# Altium integrated library Diodes - TVS.IntLib: 5379 symbols (part 112 of 122)
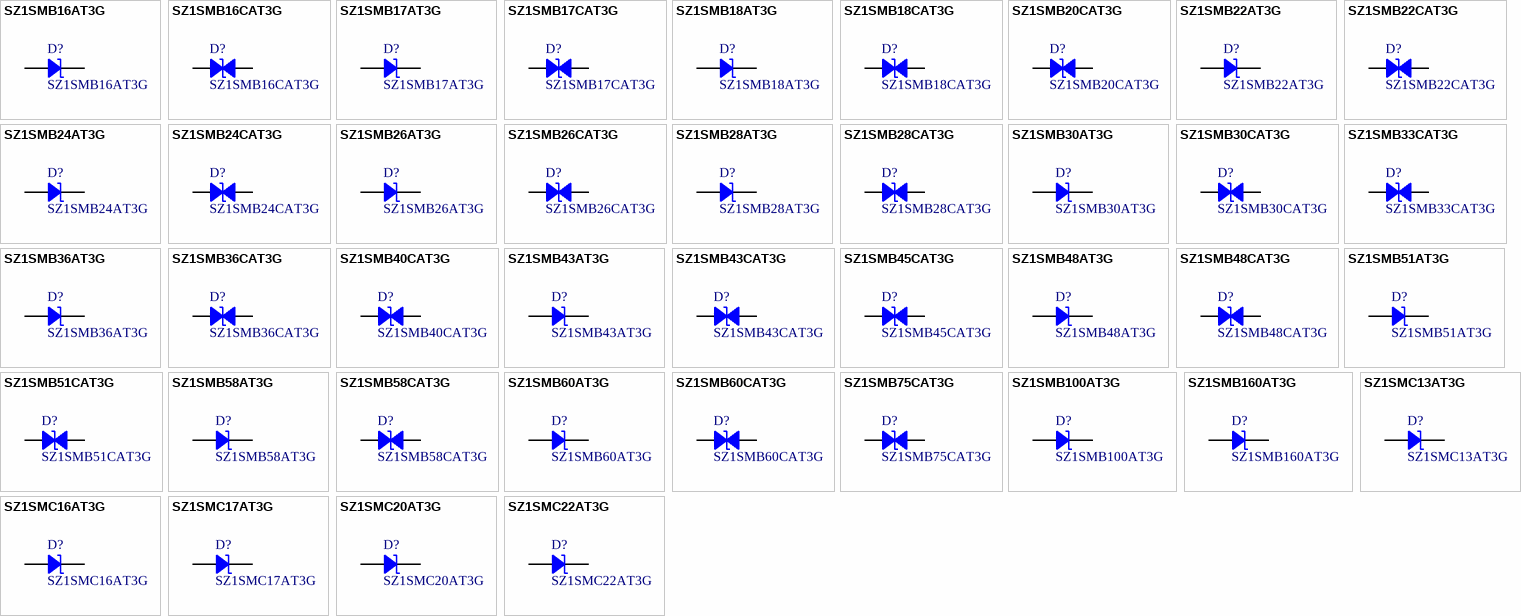
[diagram p245: symbols SZ1SMB16AT3G to SZ1SMC22AT3G]

## SZ1SMB30AT3G
designator D?
TVS DIODE 30V 48.4V SMB; Manufacturer: Littelfuse Inc.; Capacitance @ Frequency: 555pF @ 1MHz; Current - Peak Pulse (10/1000µs): 12.4A; Power Line Protection: No; Power - Peak Pulse: 600W; Type: Zener; Unidirectional Channels: 1; Voltage - Breakdown (Min): 33.3V; Part Number: SZ1SMB30AT3G; Applications: Automotive; ComponentLink1Description: Datasheet; ComponentLink1URL: https://www.littelfuse.com/~/media/electronics/datasheets/tvs_diodes/littelfuse_tvs_diode_sz1smb_datasheet.pdf.pdf; ComponentLink2Description: DigiKey Link; ComponentLink2URL: http://digikey.com/product-detail/en/littelfuse-inc/SZ1SMB30AT3G/F11559CT-ND/9326887; LastUpdated: 9/2/2020 1:19:43 AM; Lifecycle Status: Active; Minimum Order: 1; Mounting Type: Surface Mount; Operating Temperature: -65°C ~ 150°C (TJ); Package / Case: DO-214AA, SMB; Packaging: TapeAndReel; PartId: 10530; Part Status: Active; Price: 0.24; Series: Automotive, AEC-Q101; Supplier 1: DigiKey; Supplier Part Number 1: F11559CT-ND; Supplier Device Package: SMB; Voltage - Clamping (Max) @ Ipp: 48.4V; Voltage - Reverse Standoff (Typ): 30V
footprint DO214AA SMB
pins: 1, 2

## SZ1SMB30CAT3G
designator D?
TVS DIODE 30VWM 48.4VC SMB; Manufacturer: Littelfuse Inc.; Bidirectional Channels: 1; Capacitance @ Frequency: 290pF @ 1MHz; Current - Peak Pulse (10/1000µs): 12.4A; Power Line Protection: No; Power - Peak Pulse: 600W; Type: Zener; Voltage - Breakdown (Min): 33.3V; Voltage - Clamping (Max) @ Ipp: 48.4V; Voltage - Reverse Standoff (Typ): 30V; Part Number: SZ1SMB30CAT3G; Applications: Automotive; ComponentLink1Description: Datasheet; ComponentLink1URL: https://www.littelfuse.com/~/media/electronics/datasheets/tvs_diodes/littelfuse_tvs_diode_sz1smb_datasheet.pdf.pdf; ComponentLink2Description: DigiKey Link; ComponentLink2URL: http://digikey.com/product-detail/en/littelfuse-inc/SZ1SMB30CAT3G/SZ1SMB30CAT3GCT-ND/8548343; LastUpdated: 9/2/2020 1:28:18 AM; Lifecycle Status: Active; Minimum Order: 1; Mounting Type: Surface Mount; Operating Temperature: -65°C ~ 150°C (TJ); Package / Case: DO-214AA, SMB; Packaging: TapeAndReel; PartId: 9157; Part Status: Active; Price: 0.34; Series: Automotive, AEC-Q101; Supplier 1: DigiKey; Supplier Part Number 1: SZ1SMB30CAT3GCT-ND; Supplier Device Package: SMB
footprint DO214AA SMB
pins: 1, 2

## SZ1SMB33CAT3G
designator D?
TVS DIODE 33V 53.3V SMB; Manufacturer: Littelfuse Inc.; Bidirectional Channels: 1; Capacitance @ Frequency: 265pF @ 1MHz; Current - Peak Pulse (10/1000µs): 11.3A; Power Line Protection: No; Power - Peak Pulse: 600W; Type: Zener; Voltage - Breakdown (Min): 36.7V; Part Number: SZ1SMB33CAT3G; Applications: Automotive; ComponentLink1Description: Datasheet; ComponentLink1URL: https://www.littelfuse.com/~/media/electronics/datasheets/tvs_diodes/littelfuse_tvs_diode_sz1smb_datasheet.pdf.pdf; ComponentLink2Description: DigiKey Link; ComponentLink2URL: http://digikey.com/product-detail/en/littelfuse-inc/SZ1SMB33CAT3G/SZ1SMB33CAT3GOSCT-ND/4331851; LastUpdated: 9/2/2020 1:28:15 AM; Lifecycle Status: Active; Minimum Order: 1; Mounting Type: Surface Mount; Operating Temperature: -65°C ~ 150°C (TJ); Package / Case: DO-214AA, SMB; Packaging: TapeAndReel; PartId: 8889; Part Status: Active; Price: 0.37; Series: Automotive, AEC-Q101; Supplier 1: DigiKey; Supplier Part Number 1: SZ1SMB33CAT3GOSCT-ND; Supplier Device Package: SMB; Voltage - Clamping (Max) @ Ipp: 53.3V; Voltage - Reverse Standoff (Typ): 33V
footprint DO214AA SMB
pins: 1, 2

## SZ1SMB36AT3G
designator D?
TVS DIODE 36V 58.1V SMB; Manufacturer: Littelfuse Inc.; Capacitance @ Frequency: 470pF @ 1MHz; Current - Peak Pulse (10/1000µs): 10.3A; Power Line Protection: No; Power - Peak Pulse: 600W; Type: Zener; Unidirectional Channels: 1; Voltage - Breakdown (Min): 40V; Part Number: SZ1SMB36AT3G; Applications: Automotive; ComponentLink1Description: Datasheet; ComponentLink1URL: https://www.littelfuse.com/~/media/electronics/datasheets/tvs_diodes/littelfuse_tvs_diode_sz1smb_datasheet.pdf.pdf; ComponentLink2Description: DigiKey Link; ComponentLink2URL: http://digikey.com/product-detail/en/littelfuse-inc/SZ1SMB36AT3G/F11561CT-ND/9326889; LastUpdated: 9/2/2020 1:19:47 AM; Lifecycle Status: Active; Minimum Order: 1; Mounting Type: Surface Mount; Operating Temperature: -65°C ~ 150°C (TJ); Package / Case: DO-214AA, SMB; Packaging: TapeAndReel; PartId: 10906; Part Status: Active; Price: 0.24; Series: Automotive, AEC-Q101; Supplier 1: DigiKey; Supplier Part Number 1: F11561CT-ND; Supplier Device Package: SMB; Voltage - Clamping (Max) @ Ipp: 58.1V; Voltage - Reverse Standoff (Typ): 36V
footprint DO214AA SMB
pins: 1, 2

## SZ1SMB36CAT3G
designator D?
TVS DIODE 36V 58.1V SMB; Manufacturer: Littelfuse Inc.; Bidirectional Channels: 1; Capacitance @ Frequency: 245pF @ 1MHz; Current - Peak Pulse (10/1000µs): 10.3A; Power Line Protection: No; Power - Peak Pulse: 600W; Type: Zener; Voltage - Breakdown (Min): 40V; Part Number: SZ1SMB36CAT3G; Applications: Automotive; ComponentLink1Description: Datasheet; ComponentLink1URL: https://www.littelfuse.com/~/media/electronics/datasheets/tvs_diodes/littelfuse_tvs_diode_sz1smb_datasheet.pdf.pdf; ComponentLink2Description: DigiKey Link; ComponentLink2URL: http://digikey.com/product-detail/en/littelfuse-inc/SZ1SMB36CAT3G/SZ1SMB36CAT3GOSCT-ND/6007829; LastUpdated: 9/2/2020 1:28:15 AM; Lifecycle Status: Active; Minimum Order: 1; Mounting Type: Surface Mount; Operating Temperature: -65°C ~ 150°C (TJ); Package / Case: DO-214AA, SMB; Packaging: TapeAndReel; PartId: 8892; Part Status: Active; Price: 0.34; Series: Automotive, AEC-Q101; Supplier 1: DigiKey; Supplier Part Number 1: SZ1SMB36CAT3GOSCT-ND; Supplier Device Package: SMB; Voltage - Clamping (Max) @ Ipp: 58.1V; Voltage - Reverse Standoff (Typ): 36V
footprint DO214AA SMB
pins: 1, 2

## SZ1SMB40CAT3G
designator D?
TVS DIODE 40V 64.5V SMB; Manufacturer: Littelfuse Inc.; Bidirectional Channels: 1; Capacitance @ Frequency: 220pF @ 1MHz; Current - Peak Pulse (10/1000µs): 9.3A; Power Line Protection: No; Power - Peak Pulse: 600W; Type: Zener; Voltage - Breakdown (Min): 44.4V; Part Number: SZ1SMB40CAT3G; Applications: Automotive; ComponentLink1Description: Datasheet; ComponentLink1URL: https://www.littelfuse.com/~/media/electronics/datasheets/tvs_diodes/littelfuse_tvs_diode_sz1smb_datasheet.pdf.pdf; ComponentLink2Description: DigiKey Link; ComponentLink2URL: http://digikey.com/product-detail/en/littelfuse-inc/SZ1SMB40CAT3G/F11562CT-ND/9326890; LastUpdated: 9/2/2020 1:28:18 AM; Lifecycle Status: Active; Minimum Order: 1; Mounting Type: Surface Mount; Operating Temperature: -65°C ~ 150°C (TJ); Package / Case: DO-214AA, SMB; Packaging: TapeAndReel; PartId: 9159; Part Status: Active; Price: 0.29; Series: Automotive, AEC-Q101; Supplier 1: DigiKey; Supplier Part Number 1: F11562CT-ND; Supplier Device Package: SMB; Voltage - Clamping (Max) @ Ipp: 64.5V; Voltage - Reverse Standoff (Typ): 40V
footprint DO214AA SMB
pins: 1, 2

## SZ1SMB43AT3G
designator D?
TVS DIODE 43V 69.4V SMB; Manufacturer: Littelfuse Inc.; Capacitance @ Frequency: 400pF @ 1MHz; Current - Peak Pulse (10/1000µs): 8.6A; Power Line Protection: No; Power - Peak Pulse: 600W; Type: Zener; Unidirectional Channels: 1; Voltage - Breakdown (Min): 47.8V; Part Number: SZ1SMB43AT3G; Applications: Automotive; ComponentLink1Description: Datasheet; ComponentLink1URL: https://www.littelfuse.com/~/media/electronics/datasheets/tvs_diodes/littelfuse_tvs_diode_sz1smb_datasheet.pdf.pdf; ComponentLink2Description: DigiKey Link; ComponentLink2URL: http://digikey.com/product-detail/en/littelfuse-inc/SZ1SMB43AT3G/F11563CT-ND/9326891; LastUpdated: 9/2/2020 1:19:50 AM; Lifecycle Status: Active; Minimum Order: 1; Mounting Type: Surface Mount; Operating Temperature: -65°C ~ 150°C (TJ); Package / Case: DO-214AA, SMB; Packaging: TapeAndReel; PartId: 11298; Part Status: Active; Price: 0.30; Series: Automotive, AEC-Q101; Supplier 1: DigiKey; Supplier Part Number 1: F11563CT-ND; Supplier Device Package: SMB; Voltage - Clamping (Max) @ Ipp: 69.4V; Voltage - Reverse Standoff (Typ): 43V
footprint DO214AA SMB
pins: 1, 2

## SZ1SMB43CAT3G
designator D?
TVS DIODE 43V 69.4V SMB; Manufacturer: Littelfuse Inc.; Bidirectional Channels: 1; Capacitance @ Frequency: 210pF @ 1MHz; Current - Peak Pulse (10/1000µs): 8.6A; Power Line Protection: No; Power - Peak Pulse: 600W; Type: Zener; Voltage - Breakdown (Min): 47.8V; Part Number: SZ1SMB43CAT3G; Applications: Automotive; ComponentLink1Description: Datasheet; ComponentLink1URL: https://www.littelfuse.com/~/media/electronics/datasheets/tvs_diodes/littelfuse_tvs_diode_sz1smb_datasheet.pdf.pdf; ComponentLink2Description: DigiKey Link; ComponentLink2URL: http://digikey.com/product-detail/en/littelfuse-inc/SZ1SMB43CAT3G/F11564CT-ND/9326892; LastUpdated: 9/2/2020 1:28:22 AM; Lifecycle Status: Active; Minimum Order: 1; Mounting Type: Surface Mount; Operating Temperature: -65°C ~ 150°C (TJ); Package / Case: DO-214AA, SMB; Packaging: TapeAndReel; PartId: 9650; Part Status: Active; Price: 0.29; Series: Automotive, AEC-Q101; Supplier 1: DigiKey; Supplier Part Number 1: F11564CT-ND; Supplier Device Package: SMB; Voltage - Clamping (Max) @ Ipp: 69.4V; Voltage - Reverse Standoff (Typ): 43V
footprint DO214AA SMB
pins: 1, 2

## SZ1SMB45CAT3G
designator D?
TVS DIODE 45V 72.2V SMB; Manufacturer: Littelfuse Inc.; Bidirectional Channels: 1; Capacitance @ Frequency: 200pF @ 1MHz; Current - Peak Pulse (10/1000µs): 8.3A; Power Line Protection: No; Power - Peak Pulse: 600W; Type: Zener; Voltage - Breakdown (Min): 50V; Part Number: SZ1SMB45CAT3G; Applications: Automotive; ComponentLink1Description: Datasheet; ComponentLink1URL: https://www.littelfuse.com/~/media/electronics/datasheets/tvs_diodes/littelfuse_tvs_diode_sz1smb_datasheet.pdf.pdf; ComponentLink2Description: DigiKey Link; ComponentLink2URL: http://digikey.com/product-detail/en/littelfuse-inc/SZ1SMB45CAT3G/F11565CT-ND/9326893; LastUpdated: 9/2/2020 1:28:22 AM; Lifecycle Status: Active; Minimum Order: 1; Mounting Type: Surface Mount; Operating Temperature: -65°C ~ 150°C (TJ); Package / Case: DO-214AA, SMB; Packaging: TapeAndReel; PartId: 9648; Part Status: Active; Price: 0.29; Series: Automotive, AEC-Q101; Supplier 1: DigiKey; Supplier Part Number 1: F11565CT-ND; Supplier Device Package: SMB; Voltage - Clamping (Max) @ Ipp: 72.2V; Voltage - Reverse Standoff (Typ): 45V
footprint DO214AA SMB
pins: 1, 2

## SZ1SMB48AT3G
designator D?
TVS DIODE 48V 77.4V SMB; Manufacturer: Littelfuse Inc.; Capacitance @ Frequency: 365pF @ 1MHz; Current - Peak Pulse (10/1000µs): 7.7A; Power Line Protection: No; Power - Peak Pulse: 600W; Type: Zener; Unidirectional Channels: 1; Voltage - Breakdown (Min): 53.3V; Part Number: SZ1SMB48AT3G; Applications: Automotive; ComponentLink1Description: Datasheet; ComponentLink1URL: https://www.littelfuse.com/~/media/electronics/datasheets/tvs_diodes/littelfuse_tvs_diode_sz1smb_datasheet.pdf.pdf; ComponentLink2Description: DigiKey Link; ComponentLink2URL: http://digikey.com/product-detail/en/littelfuse-inc/SZ1SMB48AT3G/F11566CT-ND/9326894; LastUpdated: 9/2/2020 1:19:43 AM; Lifecycle Status: Active; Minimum Order: 1; Mounting Type: Surface Mount; Operating Temperature: -65°C ~ 150°C (TJ); Package / Case: DO-214AA, SMB; Packaging: TapeAndReel; PartId: 10532; Part Status: Active; Price: 0.24; Series: Automotive, AEC-Q101; Supplier 1: DigiKey; Supplier Part Number 1: F11566CT-ND; Supplier Device Package: SMB; Voltage - Clamping (Max) @ Ipp: 77.4V; Voltage - Reverse Standoff (Typ): 48V
footprint DO214AA SMB
pins: 1, 2

## SZ1SMB48CAT3G
designator D?
TVS DIODE 48V 77.4V SMB; Manufacturer: Littelfuse Inc.; Bidirectional Channels: 1; Capacitance @ Frequency: 190pF @ 1MHz; Current - Peak Pulse (10/1000µs): 7.7A; Power Line Protection: No; Power - Peak Pulse: 600W; Type: Zener; Voltage - Breakdown (Min): 53.3V; Part Number: SZ1SMB48CAT3G; Applications: Automotive; ComponentLink1Description: Datasheet; ComponentLink1URL: https://www.littelfuse.com/~/media/electronics/datasheets/tvs_diodes/littelfuse_tvs_diode_sz1smb_datasheet.pdf.pdf; ComponentLink2Description: DigiKey Link; ComponentLink2URL: http://digikey.com/product-detail/en/littelfuse-inc/SZ1SMB48CAT3G/F11567CT-ND/9326895; LastUpdated: 9/2/2020 1:28:16 AM; Lifecycle Status: Active; Minimum Order: 1; Mounting Type: Surface Mount; Operating Temperature: -65°C ~ 150°C (TJ); Package / Case: DO-214AA, SMB; Packaging: TapeAndReel; PartId: 8898; Part Status: Active; Price: 0.29; Series: Automotive, AEC-Q101; Supplier 1: DigiKey; Supplier Part Number 1: F11567CT-ND; Supplier Device Package: SMB; Voltage - Clamping (Max) @ Ipp: 77.4V; Voltage - Reverse Standoff (Typ): 48V
footprint DO214AA SMB
pins: 1, 2

## SZ1SMB51AT3G
designator D?
TVS DIODE 51V 82.4V SMB; Manufacturer: Littelfuse Inc.; Capacitance @ Frequency: 345pF @ 1MHz; Current - Peak Pulse (10/1000µs): 7.3A; Power Line Protection: No; Power - Peak Pulse: 600W; Type: Zener; Unidirectional Channels: 1; Voltage - Breakdown (Min): 56.7V; Part Number: SZ1SMB51AT3G; Applications: Automotive; ComponentLink1Description: Datasheet; ComponentLink1URL: https://www.littelfuse.com/~/media/electronics/datasheets/tvs_diodes/littelfuse_tvs_diode_sz1smb_datasheet.pdf.pdf; ComponentLink2Description: DigiKey Link; ComponentLink2URL: http://digikey.com/product-detail/en/littelfuse-inc/SZ1SMB51AT3G/F11569CT-ND/9326897; LastUpdated: 9/2/2020 1:19:51 AM; Lifecycle Status: Active; Minimum Order: 1; Mounting Type: Surface Mount; Operating Temperature: -65°C ~ 150°C (TJ); Package / Case: DO-214AA, SMB; Packaging: TapeAndReel; PartId: 11347; Part Status: Active; Price: 0.30; Series: Automotive, AEC-Q101; Supplier 1: DigiKey; Supplier Part Number 1: F11569CT-ND; Supplier Device Package: SMB; Voltage - Clamping (Max) @ Ipp: 82.4V; Voltage - Reverse Standoff (Typ): 51V
footprint DO214AA SMB
pins: 1, 2

## SZ1SMB51CAT3G
designator D?
TVS DIODE 51V 82.4V SMB; Manufacturer: Littelfuse Inc.; Bidirectional Channels: 1; Capacitance @ Frequency: 175pF @ 1MHz; Current - Peak Pulse (10/1000µs): 7.3A; Power Line Protection: No; Power - Peak Pulse: 600W; Type: Zener; Voltage - Breakdown (Min): 56.7V; Part Number: SZ1SMB51CAT3G; Applications: Automotive; ComponentLink1Description: Datasheet; ComponentLink1URL: https://www.littelfuse.com/~/media/electronics/datasheets/tvs_diodes/littelfuse_tvs_diode_sz1smb_datasheet.pdf.pdf; ComponentLink2Description: DigiKey Link; ComponentLink2URL: http://digikey.com/product-detail/en/littelfuse-inc/SZ1SMB51CAT3G/F11570CT-ND/9326898; LastUpdated: 9/2/2020 1:28:22 AM; Lifecycle Status: Active; Minimum Order: 1; Mounting Type: Surface Mount; Operating Temperature: -65°C ~ 150°C (TJ); Package / Case: DO-214AA, SMB; Packaging: TapeAndReel; PartId: 9651; Part Status: Active; Price: 0.29; Series: Automotive, AEC-Q101; Supplier 1: DigiKey; Supplier Part Number 1: F11570CT-ND; Supplier Device Package: SMB; Voltage - Clamping (Max) @ Ipp: 82.4V; Voltage - Reverse Standoff (Typ): 51V
footprint DO214AA SMB
pins: 1, 2

## SZ1SMB58AT3G
designator D?
TVS DIODE 58V 93.6V SMB; Manufacturer: Littelfuse Inc.; Capacitance @ Frequency: 310pF @ 1MHz; Current - Peak Pulse (10/1000µs): 6.4A; Power Line Protection: No; Power - Peak Pulse: 600W; Type: Zener; Unidirectional Channels: 1; Voltage - Breakdown (Min): 64.4V; Part Number: SZ1SMB58AT3G; Applications: Automotive; ComponentLink1Description: Datasheet; ComponentLink1URL: https://www.littelfuse.com/~/media/electronics/datasheets/tvs_diodes/littelfuse_tvs_diode_sz1smb_datasheet.pdf.pdf; ComponentLink2Description: DigiKey Link; ComponentLink2URL: http://digikey.com/product-detail/en/littelfuse-inc/SZ1SMB58AT3G/F11572CT-ND/9326900; LastUpdated: 9/2/2020 1:19:46 AM; Lifecycle Status: Active; Minimum Order: 1; Mounting Type: Surface Mount; Operating Temperature: -65°C ~ 150°C (TJ); Package / Case: DO-214AA, SMB; Packaging: TapeAndReel; PartId: 10833; Part Status: Active; Price: 0.30; Series: Automotive, AEC-Q101; Supplier 1: DigiKey; Supplier Part Number 1: F11572CT-ND; Supplier Device Package: SMB; Voltage - Clamping (Max) @ Ipp: 93.6V; Voltage - Reverse Standoff (Typ): 58V
footprint DO214AA SMB
pins: 1, 2

## SZ1SMB58CAT3G
designator D?
TVS DIODE 58V 93.6V SMB; Manufacturer: Littelfuse Inc.; Bidirectional Channels: 1; Capacitance @ Frequency: 155pF @ 1MHz; Current - Peak Pulse (10/1000µs): 6.4A; Power Line Protection: No; Power - Peak Pulse: 600W; Type: Zener; Voltage - Breakdown (Min): 64.4V; Part Number: SZ1SMB58CAT3G; Applications: Automotive; ComponentLink1Description: Datasheet; ComponentLink1URL: https://www.littelfuse.com/~/media/electronics/datasheets/tvs_diodes/littelfuse_tvs_diode_sz1smb_datasheet.pdf.pdf; ComponentLink2Description: DigiKey Link; ComponentLink2URL: http://digikey.com/product-detail/en/littelfuse-inc/SZ1SMB58CAT3G/F11573CT-ND/9326901; LastUpdated: 9/2/2020 1:28:22 AM; Lifecycle Status: Active; Minimum Order: 1; Mounting Type: Surface Mount; Operating Temperature: -65°C ~ 150°C (TJ); Package / Case: DO-214AA, SMB; Packaging: TapeAndReel; PartId: 9643; Part Status: Active; Price: 0.29; Series: Automotive, AEC-Q101; Supplier 1: DigiKey; Supplier Part Number 1: F11573CT-ND; Supplier Device Package: SMB; Voltage - Clamping (Max) @ Ipp: 93.6V; Voltage - Reverse Standoff (Typ): 58V
footprint DO214AA SMB
pins: 1, 2

## SZ1SMB60AT3G
designator D?
TVS DIODE 60V 96.8V SMB; Manufacturer: Littelfuse Inc.; Capacitance @ Frequency: 300pF @ 1MHz; Current - Peak Pulse (10/1000µs): 6.2A; Power Line Protection: No; Power - Peak Pulse: 600W; Type: Zener; Unidirectional Channels: 1; Voltage - Breakdown (Min): 66.7V; Part Number: SZ1SMB60AT3G; Applications: Automotive; ComponentLink1Description: Datasheet; ComponentLink1URL: https://www.littelfuse.com/~/media/electronics/datasheets/tvs_diodes/littelfuse_tvs_diode_sz1smb_datasheet.pdf.pdf; ComponentLink2Description: DigiKey Link; ComponentLink2URL: http://digikey.com/product-detail/en/littelfuse-inc/SZ1SMB60AT3G/F11575CT-ND/9326903; LastUpdated: 9/2/2020 1:19:51 AM; Lifecycle Status: Active; Minimum Order: 1; Mounting Type: Surface Mount; Operating Temperature: -65°C ~ 150°C (TJ); Package / Case: DO-214AA, SMB; Packaging: TapeAndReel; PartId: 11350; Part Status: Active; Price: 0.30; Series: Automotive, AEC-Q101; Supplier 1: DigiKey; Supplier Part Number 1: F11575CT-ND; Supplier Device Package: SMB; Voltage - Clamping (Max) @ Ipp: 96.8V; Voltage - Reverse Standoff (Typ): 60V
footprint DO214AA SMB
pins: 1, 2

## SZ1SMB60CAT3G
designator D?
TVS DIODE 60V 96.8V SMB; Manufacturer: Littelfuse Inc.; Bidirectional Channels: 1; Capacitance @ Frequency: 150pF @ 1MHz; Current - Peak Pulse (10/1000µs): 6.2A; Power Line Protection: No; Power - Peak Pulse: 600W; Type: Zener; Voltage - Breakdown (Min): 66.7V; Part Number: SZ1SMB60CAT3G; Applications: Automotive; ComponentLink1Description: Datasheet; ComponentLink1URL: https://www.littelfuse.com/~/media/electronics/datasheets/tvs_diodes/littelfuse_tvs_diode_sz1smb_datasheet.pdf.pdf; ComponentLink2Description: DigiKey Link; ComponentLink2URL: http://digikey.com/product-detail/en/littelfuse-inc/SZ1SMB60CAT3G/F11576CT-ND/9326904; LastUpdated: 9/2/2020 1:28:16 AM; Lifecycle Status: Active; Minimum Order: 1; Mounting Type: Surface Mount; Operating Temperature: -65°C ~ 150°C (TJ); Package / Case: DO-214AA, SMB; Packaging: TapeAndReel; PartId: 8895; Part Status: Active; Price: 0.29; Series: Automotive, AEC-Q101; Supplier 1: DigiKey; Supplier Part Number 1: F11576CT-ND; Supplier Device Package: SMB; Voltage - Clamping (Max) @ Ipp: 96.8V; Voltage - Reverse Standoff (Typ): 60V
footprint DO214AA SMB
pins: 1, 2

## SZ1SMB75CAT3G
designator D?
TVS DIODE 75V 121V SMB; Manufacturer: Littelfuse Inc.; Bidirectional Channels: 1; Capacitance @ Frequency: 125pF @ 1MHz; Current - Peak Pulse (10/1000µs): 4.9A; Power Line Protection: No; Power - Peak Pulse: 600W; Type: Zener; Voltage - Breakdown (Min): 83.3V; Part Number: SZ1SMB75CAT3G; Applications: Automotive; ComponentLink1Description: Datasheet; ComponentLink1URL: https://www.littelfuse.com/~/media/electronics/datasheets/tvs_diodes/littelfuse_tvs_diode_sz1smb_datasheet.pdf.pdf; ComponentLink2Description: DigiKey Link; ComponentLink2URL: http://digikey.com/product-detail/en/littelfuse-inc/SZ1SMB75CAT3G/F11580CT-ND/9326908; LastUpdated: 9/2/2020 1:28:22 AM; Lifecycle Status: Active; Minimum Order: 1; Mounting Type: Surface Mount; Operating Temperature: -65°C ~ 150°C (TJ); Package / Case: DO-214AA, SMB; Packaging: TapeAndReel; PartId: 9644; Part Status: Active; Price: 0.29; Series: Automotive, AEC-Q101; Supplier 1: DigiKey; Supplier Part Number 1: F11580CT-ND; Supplier Device Package: SMB; Voltage - Clamping (Max) @ Ipp: 121V; Voltage - Reverse Standoff (Typ): 75V
footprint DO214AA SMB
pins: 1, 2

## SZ1SMB100AT3G
designator D?
TVS DIODE 100V 162V SMB; Manufacturer: Littelfuse Inc.; Capacitance @ Frequency: 190pF @ 1MHz; Current - Peak Pulse (10/1000µs): 3.7A; Power Line Protection: No; Power - Peak Pulse: 600W; Type: Zener; Unidirectional Channels: 1; Voltage - Breakdown (Min): 111V; Part Number: SZ1SMB100AT3G; Applications: Automotive; ComponentLink1Description: Datasheet; ComponentLink1URL: https://www.littelfuse.com/~/media/electronics/datasheets/tvs_diodes/littelfuse_tvs_diode_sz1smb_datasheet.pdf.pdf; ComponentLink2Description: DigiKey Link; ComponentLink2URL: http://digikey.com/product-detail/en/littelfuse-inc/SZ1SMB100AT3G/F11534CT-ND/9326862; LastUpdated: 9/2/2020 1:19:48 AM; Lifecycle Status: Active; Minimum Order: 1; Mounting Type: Surface Mount; Operating Temperature: -65°C ~ 150°C (TJ); Package / Case: DO-214AA, SMB; Packaging: TapeAndReel; PartId: 10997; Part Status: Active; Price: 0.37; Series: Automotive, AEC-Q101; Supplier 1: DigiKey; Supplier Part Number 1: F11534CT-ND; Supplier Device Package: SMB; Voltage - Clamping (Max) @ Ipp: 162V; Voltage - Reverse Standoff (Typ): 100V
footprint DO214AA SMB
pins: 1, 2

## SZ1SMB160AT3G
designator D?
TVS DIODE 160V 259V SMB; Manufacturer: Littelfuse Inc.; Capacitance @ Frequency: 125pF @ 1MHz; Current - Peak Pulse (10/1000µs): 2.3A; Power Line Protection: No; Power - Peak Pulse: 600W; Type: Zener; Unidirectional Channels: 1; Voltage - Breakdown (Min): 178V; Part Number: SZ1SMB160AT3G; Applications: Automotive; ComponentLink1Description: Datasheet; ComponentLink1URL: https://www.littelfuse.com/~/media/electronics/datasheets/tvs_diodes/littelfuse_tvs_diode_sz1smb_datasheet.pdf.pdf; ComponentLink2Description: DigiKey Link; ComponentLink2URL: http://digikey.com/product-detail/en/littelfuse-inc/SZ1SMB160AT3G/F11545CT-ND/9326873; LastUpdated: 9/2/2020 1:19:48 AM; Lifecycle Status: Active; Minimum Order: 1; Mounting Type: Surface Mount; Operating Temperature: -65°C ~ 150°C (TJ); Package / Case: DO-214AA, SMB; Packaging: TapeAndReel; PartId: 10995; Part Status: Active; Price: 0.37; Series: Automotive, AEC-Q101; Supplier 1: DigiKey; Supplier Part Number 1: F11545CT-ND; Supplier Device Package: SMB; Voltage - Clamping (Max) @ Ipp: 259V; Voltage - Reverse Standoff (Typ): 160V
footprint DO214AA SMB
pins: 1, 2

## SZ1SMC13AT3G
designator D?
TVS DIODE 13V 21.5V SMC; Manufacturer: Littelfuse Inc.; Current - Peak Pulse (10/1000µs): 69.7A; Power Line Protection: No; Power - Peak Pulse: 1500W (1.5kW); Type: Zener; Unidirectional Channels: 1; Voltage - Breakdown (Min): 14.4V; Part Number: SZ1SMC13AT3G; Applications: Automotive; ComponentLink1Description: Datasheet; ComponentLink1URL: https://www.littelfuse.com/~/media/electronics/datasheets/tvs_diodes/littelfuse_tvs_diode_sz1smcxxa_datasheet.pdf.pdf; ComponentLink2Description: DigiKey Link; ComponentLink2URL: http://digikey.com/product-detail/en/littelfuse-inc/SZ1SMC13AT3G/F11581CT-ND/9326909; LastUpdated: 9/2/2020 1:20:06 AM; Lifecycle Status: Active; Minimum Order: 1; Mounting Type: Surface Mount; Operating Temperature: -65°C ~ 150°C (TJ); Package / Case: DO-214AB, SMC; Packaging: TapeAndReel; PartId: 7071; Part Status: Active; Price: 0.43; Series: Automotive, AEC-Q101; Supplier 1: DigiKey; Supplier Part Number 1: F11581CT-ND; Supplier Device Package: SMC; Voltage - Clamping (Max) @ Ipp: 21.5V; Voltage - Reverse Standoff (Typ): 13V
footprint DO214AB SMC
pins: 1, 2

## SZ1SMC16AT3G
designator D?
TVS DIODE 16V 26V SMC; Manufacturer: Littelfuse Inc.; Current - Peak Pulse (10/1000µs): 57.7A; Power Line Protection: No; Power - Peak Pulse: 1500W (1.5kW); Type: Zener; Unidirectional Channels: 1; Voltage - Breakdown (Min): 17.8V; Part Number: SZ1SMC16AT3G; Applications: Automotive; ComponentLink1Description: Datasheet; ComponentLink1URL: https://www.littelfuse.com/~/media/electronics/datasheets/tvs_diodes/littelfuse_tvs_diode_sz1smcxxa_datasheet.pdf.pdf; ComponentLink2Description: DigiKey Link; ComponentLink2URL: http://digikey.com/product-detail/en/littelfuse-inc/SZ1SMC16AT3G/F11582CT-ND/9326910; LastUpdated: 9/2/2020 1:20:07 AM; Lifecycle Status: Active; Minimum Order: 1; Mounting Type: Surface Mount; Operating Temperature: -65°C ~ 150°C (TJ); Package / Case: DO-214AB, SMC; Packaging: TapeAndReel; PartId: 7086; Part Status: Active; Price: 0.43; Series: Automotive, AEC-Q101; Supplier 1: DigiKey; Supplier Part Number 1: F11582CT-ND; Supplier Device Package: SMC; Voltage - Clamping (Max) @ Ipp: 26V; Voltage - Reverse Standoff (Typ): 16V
footprint DO214AB SMC
pins: 1, 2

## SZ1SMC17AT3G
designator D?
TVS DIODE 17V 27.6V SMC; Manufacturer: Littelfuse Inc.; Current - Peak Pulse (10/1000µs): 53.3A; Power Line Protection: No; Power - Peak Pulse: 1500W (1.5kW); Type: Zener; Unidirectional Channels: 1; Voltage - Breakdown (Min): 18.9V; Part Number: SZ1SMC17AT3G; Applications: Automotive; ComponentLink1Description: Datasheet; ComponentLink1URL: https://www.littelfuse.com/~/media/electronics/datasheets/tvs_diodes/littelfuse_tvs_diode_sz1smcxxa_datasheet.pdf.pdf; ComponentLink2Description: DigiKey Link; ComponentLink2URL: http://digikey.com/product-detail/en/littelfuse-inc/SZ1SMC17AT3G/F11583CT-ND/9326911; LastUpdated: 9/2/2020 1:20:06 AM; Lifecycle Status: Active; Minimum Order: 1; Mounting Type: Surface Mount; Operating Temperature: -65°C ~ 150°C (TJ); Package / Case: DO-214AB, SMC; Packaging: TapeAndReel; PartId: 7073; Part Status: Active; Price: 0.43; Series: Automotive, AEC-Q101; Supplier 1: DigiKey; Supplier Part Number 1: F11583CT-ND; Supplier Device Package: SMC; Voltage - Clamping (Max) @ Ipp: 27.6V; Voltage - Reverse Standoff (Typ): 17V
footprint DO214AB SMC
pins: 1, 2

## SZ1SMC20AT3G
designator D?
TVS DIODE 20V 32.4V SMC; Manufacturer: Littelfuse Inc.; Current - Peak Pulse (10/1000µs): 46.3A; Power Line Protection: No; Power - Peak Pulse: 1500W (1.5kW); Type: Zener; Unidirectional Channels: 1; Voltage - Breakdown (Min): 22.2V; Part Number: SZ1SMC20AT3G; Applications: Automotive; ComponentLink1Description: Datasheet; ComponentLink1URL: https://www.littelfuse.com/~/media/electronics/datasheets/tvs_diodes/littelfuse_tvs_diode_sz1smcxxa_datasheet.pdf.pdf; ComponentLink2Description: DigiKey Link; ComponentLink2URL: http://digikey.com/product-detail/en/littelfuse-inc/SZ1SMC20AT3G/F11584CT-ND/9326912; LastUpdated: 9/2/2020 1:20:06 AM; Lifecycle Status: Active; Minimum Order: 1; Mounting Type: Surface Mount; Operating Temperature: -65°C ~ 150°C (TJ); Package / Case: DO-214AB, SMC; Packaging: TapeAndReel; PartId: 7077; Part Status: Active; Price: 0.43; Series: Automotive, AEC-Q101; Supplier 1: DigiKey; Supplier Part Number 1: F11584CT-ND; Supplier Device Package: SMC; Voltage - Clamping (Max) @ Ipp: 32.4V; Voltage - Reverse Standoff (Typ): 20V
footprint DO214AB SMC
pins: 1, 2

## SZ1SMC22AT3G
designator D?
TVS DIODE 22V 35.5V SMC; Manufacturer: Littelfuse Inc.; Current - Peak Pulse (10/1000µs): 42.2A; Power Line Protection: No; Power - Peak Pulse: 1500W (1.5kW); Type: Zener; Unidirectional Channels: 1; Voltage - Breakdown (Min): 24.4V; Part Number: SZ1SMC22AT3G; Applications: Automotive; ComponentLink1Description: Datasheet; ComponentLink1URL: https://www.littelfuse.com/~/media/electronics/datasheets/tvs_diodes/littelfuse_tvs_diode_sz1smcxxa_datasheet.pdf.pdf; ComponentLink2Description: DigiKey Link; ComponentLink2URL: http://digikey.com/product-detail/en/littelfuse-inc/SZ1SMC22AT3G/F11585CT-ND/9326913; LastUpdated: 9/2/2020 1:20:07 AM; Lifecycle Status: Active; Minimum Order: 1; Mounting Type: Surface Mount; Operating Temperature: -65°C ~ 150°C (TJ); Package / Case: DO-214AB, SMC; Packaging: TapeAndReel; PartId: 7085; Part Status: Active; Price: 0.43; Series: Automotive, AEC-Q101; Supplier 1: DigiKey; Supplier Part Number 1: F11585CT-ND; Supplier Device Package: SMC; Voltage - Clamping (Max) @ Ipp: 35.5V; Voltage - Reverse Standoff (Typ): 22V
footprint DO214AB SMC
pins: 1, 2

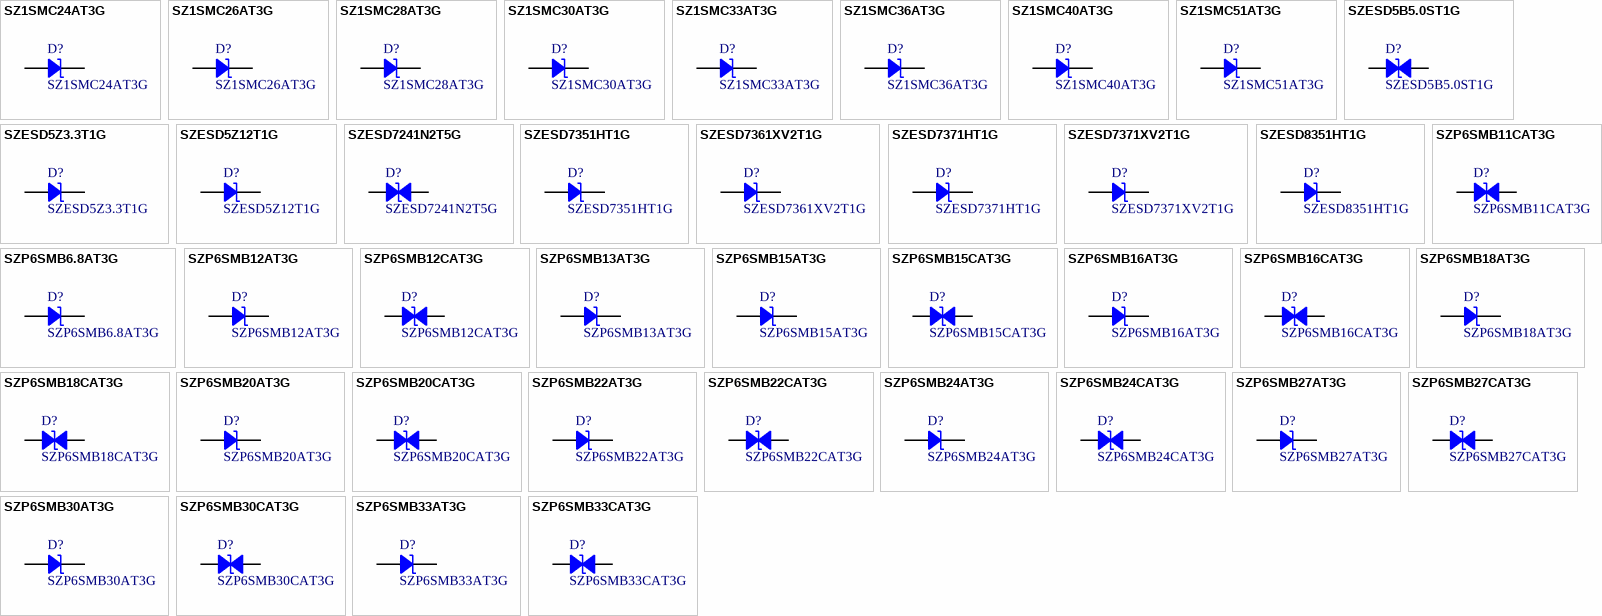
[diagram p124: symbols SZ1SMC24AT3G to SZP6SMB33CAT3G]

## SZ1SMC24AT3G
designator D?
TVS DIODE 24V 38.9V SMC; Manufacturer: Littelfuse Inc.; Current - Peak Pulse (10/1000µs): 38.6A; Power Line Protection: No; Power - Peak Pulse: 1500W (1.5kW); Type: Zener; Unidirectional Channels: 1; Voltage - Breakdown (Min): 26.7V; Part Number: SZ1SMC24AT3G; Applications: Automotive; ComponentLink1Description: Datasheet; ComponentLink1URL: https://www.littelfuse.com/~/media/electronics/datasheets/tvs_diodes/littelfuse_tvs_diode_sz1smcxxa_datasheet.pdf.pdf; ComponentLink2Description: DigiKey Link; ComponentLink2URL: http://digikey.com/product-detail/en/littelfuse-inc/SZ1SMC24AT3G/F11586CT-ND/9326914; LastUpdated: 9/2/2020 1:19:59 AM; Lifecycle Status: Active; Minimum Order: 1; Mounting Type: Surface Mount; Operating Temperature: -65°C ~ 150°C (TJ); Package / Case: DO-214AB, SMC; Packaging: TapeAndReel; PartId: 6344; Part Status: Active; Price: 0.43; Series: Automotive, AEC-Q101; Supplier 1: DigiKey; Supplier Part Number 1: F11586CT-ND; Supplier Device Package: SMC; Voltage - Clamping (Max) @ Ipp: 38.9V; Voltage - Reverse Standoff (Typ): 24V
footprint DO214AB SMC
pins: 1, 2

## SZ1SMC26AT3G
designator D?
TVS DIODE 26V 42.1V SMC; Manufacturer: Littelfuse Inc.; Current - Peak Pulse (10/1000µs): 35.6A; Power Line Protection: No; Power - Peak Pulse: 1500W (1.5kW); Type: Zener; Unidirectional Channels: 1; Voltage - Breakdown (Min): 28.9V; Part Number: SZ1SMC26AT3G; Applications: Automotive; ComponentLink1Description: Datasheet; ComponentLink1URL: https://www.littelfuse.com/~/media/electronics/datasheets/tvs_diodes/littelfuse_tvs_diode_sz1smcxxa_datasheet.pdf.pdf; ComponentLink2Description: DigiKey Link; ComponentLink2URL: http://digikey.com/product-detail/en/littelfuse-inc/SZ1SMC26AT3G/F11587CT-ND/9326915; LastUpdated: 9/2/2020 1:20:06 AM; Lifecycle Status: Active; Minimum Order: 1; Mounting Type: Surface Mount; Operating Temperature: -65°C ~ 150°C (TJ); Package / Case: DO-214AB, SMC; Packaging: TapeAndReel; PartId: 7076; Part Status: Active; Price: 0.43; Series: Automotive, AEC-Q101; Supplier 1: DigiKey; Supplier Part Number 1: F11587CT-ND; Supplier Device Package: SMC; Voltage - Clamping (Max) @ Ipp: 42.1V; Voltage - Reverse Standoff (Typ): 26V
footprint DO214AB SMC
pins: 1, 2

## SZ1SMC28AT3G
designator D?
TVS DIODE 28V 45.4V SMC; Manufacturer: Littelfuse Inc.; Current - Peak Pulse (10/1000µs): 33A; Power Line Protection: No; Power - Peak Pulse: 1500W (1.5kW); Type: Zener; Unidirectional Channels: 1; Voltage - Breakdown (Min): 31.1V; Part Number: SZ1SMC28AT3G; Applications: Automotive; ComponentLink1Description: Datasheet; ComponentLink1URL: https://www.littelfuse.com/~/media/electronics/datasheets/tvs_diodes/littelfuse_tvs_diode_sz1smcxxa_datasheet.pdf.pdf; ComponentLink2Description: DigiKey Link; ComponentLink2URL: http://digikey.com/product-detail/en/littelfuse-inc/SZ1SMC28AT3G/F11588CT-ND/9326916; LastUpdated: 9/2/2020 1:20:07 AM; Lifecycle Status: Active; Minimum Order: 1; Mounting Type: Surface Mount; Operating Temperature: -65°C ~ 150°C (TJ); Package / Case: DO-214AB, SMC; Packaging: TapeAndReel; PartId: 7082; Part Status: Active; Price: 0.43; Series: Automotive, AEC-Q101; Supplier 1: DigiKey; Supplier Part Number 1: F11588CT-ND; Supplier Device Package: SMC; Voltage - Clamping (Max) @ Ipp: 45.4V; Voltage - Reverse Standoff (Typ): 28V
footprint DO214AB SMC
pins: 1, 2

## SZ1SMC30AT3G
designator D?
TVS DIODE 30V 48.4V SMC; Manufacturer: Littelfuse Inc.; Current - Peak Pulse (10/1000µs): 31A; Power Line Protection: No; Power - Peak Pulse: 1500W (1.5kW); Type: Zener; Unidirectional Channels: 1; Voltage - Breakdown (Min): 33.3V; Part Number: SZ1SMC30AT3G; Applications: Automotive; ComponentLink1Description: Datasheet; ComponentLink1URL: https://www.littelfuse.com/~/media/electronics/datasheets/tvs_diodes/littelfuse_tvs_diode_sz1smcxxa_datasheet.pdf.pdf; ComponentLink2Description: DigiKey Link; ComponentLink2URL: http://digikey.com/product-detail/en/littelfuse-inc/SZ1SMC30AT3G/F11589CT-ND/9326917; LastUpdated: 9/2/2020 1:20:02 AM; Lifecycle Status: Active; Minimum Order: 1; Mounting Type: Surface Mount; Operating Temperature: -65°C ~ 150°C (TJ); Package / Case: DO-214AB, SMC; Packaging: TapeAndReel; PartId: 6613; Part Status: Active; Price: 0.40; Series: Automotive, AEC-Q101; Supplier 1: DigiKey; Supplier Part Number 1: F11589CT-ND; Supplier Device Package: SMC; Voltage - Clamping (Max) @ Ipp: 48.4V; Voltage - Reverse Standoff (Typ): 30V
footprint DO214AB SMC
pins: 1, 2

## SZ1SMC33AT3G
designator D?
TVS DIODE 33V 53.3V SMC; Manufacturer: Littelfuse Inc.; Current - Peak Pulse (10/1000µs): 28.1A; Power Line Protection: No; Power - Peak Pulse: 1500W (1.5kW); Type: Zener; Unidirectional Channels: 1; Voltage - Breakdown (Min): 36.7V; Part Number: SZ1SMC33AT3G; Applications: Automotive; ComponentLink1Description: Datasheet; ComponentLink1URL: https://www.littelfuse.com/~/media/electronics/datasheets/tvs_diodes/littelfuse_tvs_diode_sz1smcxxa_datasheet.pdf.pdf; ComponentLink2Description: DigiKey Link; ComponentLink2URL: http://digikey.com/product-detail/en/littelfuse-inc/SZ1SMC33AT3G/F11590CT-ND/9326918; LastUpdated: 9/2/2020 1:20:07 AM; Lifecycle Status: Active; Minimum Order: 1; Mounting Type: Surface Mount; Operating Temperature: -65°C ~ 150°C (TJ); Package / Case: DO-214AB, SMC; Packaging: TapeAndReel; PartId: 7083; Part Status: Active; Price: 0.43; Series: Automotive, AEC-Q101; Supplier 1: DigiKey; Supplier Part Number 1: F11590CT-ND; Supplier Device Package: SMC; Voltage - Clamping (Max) @ Ipp: 53.3V; Voltage - Reverse Standoff (Typ): 33V
footprint DO214AB SMC
pins: 1, 2

## SZ1SMC36AT3G
designator D?
TVS DIODE 36V 58.1V SMC; Manufacturer: Littelfuse Inc.; Current - Peak Pulse (10/1000µs): 35.8A; Power Line Protection: No; Power - Peak Pulse: 1500W (1.5kW); Type: Zener; Unidirectional Channels: 1; Voltage - Breakdown (Min): 40V; Part Number: SZ1SMC36AT3G; Applications: Automotive; ComponentLink1Description: Datasheet; ComponentLink1URL: https://www.littelfuse.com/~/media/electronics/datasheets/tvs_diodes/littelfuse_tvs_diode_sz1smcxxa_datasheet.pdf.pdf; ComponentLink2Description: DigiKey Link; ComponentLink2URL: http://digikey.com/product-detail/en/littelfuse-inc/SZ1SMC36AT3G/F11591CT-ND/9326919; LastUpdated: 9/2/2020 1:20:06 AM; Lifecycle Status: Active; Minimum Order: 1; Mounting Type: Surface Mount; Operating Temperature: -65°C ~ 150°C (TJ); Package / Case: DO-214AB, SMC; Packaging: TapeAndReel; PartId: 7074; Part Status: Active; Price: 0.43; Series: Automotive, AEC-Q101; Supplier 1: DigiKey; Supplier Part Number 1: F11591CT-ND; Supplier Device Package: SMC; Voltage - Clamping (Max) @ Ipp: 58.1V; Voltage - Reverse Standoff (Typ): 36V
footprint DO214AB SMC
pins: 1, 2

## SZ1SMC40AT3G
designator D?
TVS DIODE 40V 64.5V SMC; Manufacturer: Littelfuse Inc.; Current - Peak Pulse (10/1000µs): 32.2A; Power Line Protection: No; Power - Peak Pulse: 1500W (1.5kW); Type: Zener; Unidirectional Channels: 1; Voltage - Breakdown (Min): 44.4V; Part Number: SZ1SMC40AT3G; Applications: Automotive; ComponentLink1Description: Datasheet; ComponentLink1URL: https://www.littelfuse.com/~/media/electronics/datasheets/tvs_diodes/littelfuse_tvs_diode_sz1smcxxa_datasheet.pdf.pdf; ComponentLink2Description: DigiKey Link; ComponentLink2URL: http://digikey.com/product-detail/en/littelfuse-inc/SZ1SMC40AT3G/F11592CT-ND/9326920; LastUpdated: 9/2/2020 1:20:07 AM; Lifecycle Status: Active; Minimum Order: 1; Mounting Type: Surface Mount; Operating Temperature: -65°C ~ 150°C (TJ); Package / Case: DO-214AB, SMC; Packaging: TapeAndReel; PartId: 7084; Part Status: Active; Price: 0.43; Series: Automotive, AEC-Q101; Supplier 1: DigiKey; Supplier Part Number 1: F11592CT-ND; Supplier Device Package: SMC; Voltage - Clamping (Max) @ Ipp: 64.5V; Voltage - Reverse Standoff (Typ): 40V
footprint DO214AB SMC
pins: 1, 2

## SZ1SMC51AT3G
designator D?
TVS DIODE 51V 82.4V SMC; Manufacturer: Littelfuse Inc.; Current - Peak Pulse (10/1000µs): 18.2A; Power Line Protection: No; Power - Peak Pulse: 1500W (1.5kW); Type: Zener; Unidirectional Channels: 1; Voltage - Breakdown (Min): 56.7V; Part Number: SZ1SMC51AT3G; Applications: Automotive; ComponentLink1Description: Datasheet; ComponentLink1URL: https://www.littelfuse.com/~/media/electronics/datasheets/tvs_diodes/littelfuse_tvs_diode_sz1smcxxa_datasheet.pdf.pdf; ComponentLink2Description: DigiKey Link; ComponentLink2URL: http://digikey.com/product-detail/en/littelfuse-inc/SZ1SMC51AT3G/F11594CT-ND/9326922; LastUpdated: 9/2/2020 1:20:06 AM; Lifecycle Status: Active; Minimum Order: 1; Mounting Type: Surface Mount; Operating Temperature: -65°C ~ 150°C (TJ); Package / Case: DO-214AB, SMC; Packaging: TapeAndReel; PartId: 7069; Part Status: Active; Price: 0.43; Series: Automotive, AEC-Q101; Supplier 1: DigiKey; Supplier Part Number 1: F11594CT-ND; Supplier Device Package: SMC; Voltage - Clamping (Max) @ Ipp: 82.4V; Voltage - Reverse Standoff (Typ): 51V
footprint DO214AB SMC
pins: 1, 2

## SZESD5B5.0ST1G
designator D?
TVS DIODE 5VWM SOD523; Manufacturer: ON Semiconductor; Bidirectional Channels: 1; Capacitance @ Frequency: 32pF @ 1MHz; Power Line Protection: No; Power - Peak Pulse: 50W; Type: Zener; Voltage - Breakdown (Min): 5.8V; Voltage - Reverse Standoff (Typ): 5V (Max); Part Number: SZESD5B5.0ST1G; Applications: Automotive; ComponentLink1Description: Datasheet; ComponentLink1URL: http://www.onsemi.com/pub/Collateral/ESD5B5.0ST1-D.PDF; ComponentLink2Description: DigiKey Link; ComponentLink2URL: http://digikey.com/product-detail/en/on-semiconductor/SZESD5B5.0ST1G/SZESD5B5.0ST1GOSCT-ND/8538997; LastUpdated: 9/2/2020 1:28:25 AM; Lifecycle Status: Active; Minimum Order: 1; Mounting Type: Surface Mount; Operating Temperature: -55°C ~ 150°C (TJ); Package / Case: SC-79, SOD-523; Packaging: TapeAndReel; PartId: 9824; Part Status: Active; Price: 0.10; Series: Automotive, AEC-Q101; Supplier 1: DigiKey; Supplier Part Number 1: SZESD5B5.0ST1GOSCT-ND; Supplier Device Package: SOD-523
footprint SOD523F
pins: 1, 2

## SZESD5Z3.3T1G
designator D?
TVS DIODE 3.3VWM 14.1VC SOD523; Manufacturer: ON Semiconductor; Capacitance @ Frequency: 105pF @ 1MHz; Current - Peak Pulse (10/1000µs): 11.2A (8/20µs); Power Line Protection: No; Power - Peak Pulse: 158W; Type: Zener; Unidirectional Channels: 1; Voltage - Breakdown (Min): 5V; Voltage - Clamping (Max) @ Ipp: 14.1V; Voltage - Reverse Standoff (Typ): 3.3V (Max); Part Number: SZESD5Z3.3T1G; Applications: Automotive; ComponentLink1Description: Datasheet; ComponentLink1URL: https://www.onsemi.com/pub/Collateral/ESD5Z2.5T1-D.PDF; ComponentLink2Description: DigiKey Link; ComponentLink2URL: http://digikey.com/product-detail/en/on-semiconductor/SZESD5Z3.3T1G/SZESD5Z3.3T1GOSCT-ND/8538999; LastUpdated: 9/2/2020 1:28:24 AM; Lifecycle Status: Active; Minimum Order: 1; Mounting Type: Surface Mount; Operating Temperature: -55°C ~ 150°C (TJ); Package / Case: SC-79, SOD-523; Packaging: TapeAndReel; PartId: 9775; Part Status: Active; Price: 0.08; Series: Automotive, AEC-Q101; Supplier 1: DigiKey; Supplier Part Number 1: SZESD5Z3.3T1GOSCT-ND; Supplier Device Package: SOD-523
footprint SOD523F
pins: 1, 2

## SZESD5Z12T1G
designator D?
TVS DIODE 12VWM 25VC SOD523; Manufacturer: ON Semiconductor; Capacitance @ Frequency: 55pF @ 1MHz; Current - Peak Pulse (10/1000µs): 9.6A (8/20µs); Power Line Protection: No; Power - Peak Pulse: 240W; Type: Zener; Unidirectional Channels: 1; Voltage - Breakdown (Min): 14.1V; Voltage - Clamping (Max) @ Ipp: 25V; Voltage - Reverse Standoff (Typ): 12V (Max); Part Number: SZESD5Z12T1G; Applications: Automotive; ComponentLink1Description: Datasheet; ComponentLink1URL: https://www.onsemi.com/pub/Collateral/ESD5Z2.5T1-D.PDF; ComponentLink2Description: DigiKey Link; ComponentLink2URL: http://digikey.com/product-detail/en/on-semiconductor/SZESD5Z12T1G/SZESD5Z12T1GOSCT-ND/8538998; LastUpdated: 9/2/2020 1:28:24 AM; Lifecycle Status: Active; Minimum Order: 1; Mounting Type: Surface Mount; Operating Temperature: -55°C ~ 150°C (TJ); Package / Case: SC-79, SOD-523; Packaging: TapeAndReel; PartId: 9774; Part Status: Active; Price: 0.08; Series: Automotive, AEC-Q101; Supplier 1: DigiKey; Supplier Part Number 1: SZESD5Z12T1GOSCT-ND; Supplier Device Package: SOD-523
footprint SOD523F
pins: 1, 2

## SZESD7241N2T5G
designator D?
TVS DIODE 24V 48V 2X2DFN; Manufacturer: ON Semiconductor; Bidirectional Channels: 1; Capacitance @ Frequency: 1pF @ 1MHz (Max); Power Line Protection: No; Type: Zener; Voltage - Breakdown (Min): 24.3V; Voltage - Clamping (Max) @ Ipp: 48V (Typ); Voltage - Reverse Standoff (Typ): 24V (Max); Part Number: SZESD7241N2T5G; Applications: Automotive, RF Antenna; ComponentLink1Description: Datasheet; ComponentLink1URL: http://www.onsemi.com/pub/Collateral/ESD7241-D.PDF; ComponentLink2Description: DigiKey Link; ComponentLink2URL: http://digikey.com/product-detail/en/on-semiconductor/SZESD7241N2T5G/SZESD7241N2T5GOSCT-ND/9087834; Device Package: 0402 (1006 Metric); LastUpdated: 9/2/2020 1:28:49 AM; Lifecycle Status: Active; Minimum Order: 1; Mounting Type: Surface Mount; Operating Temperature: -55°C ~ 150°C (TJ); Package / Case: 0402 (1006 Metric); Packaging: TapeAndReel; PartId: 10460; Part Status: Active; Price: 0.10; Series: Automotive, AEC-Q101; Supplier 1: DigiKey; Supplier Part Number 1: SZESD7241N2T5GOSCT-ND; Supplier Device Package: 2-X2DFN (1x0.6)
footprint 0402
pins: 1, 2

## SZESD7351HT1G
designator D?
TVS DIODE 3.3V SOD323; Manufacturer: ON Semiconductor; Capacitance @ Frequency: 0.43pF @ 1MHz; Power Line Protection: No; Type: Zener; Unidirectional Channels: 1; Voltage - Breakdown (Min): 5V; Voltage - Reverse Standoff (Typ): 3.3V (Max); Part Number: SZESD7351HT1G; Applications: Automotive, RF Antenna; ComponentLink1Description: Datasheet; ComponentLink1URL: http://www.onsemi.com/pub/Collateral/ESD7351-D.PDF; ComponentLink2Description: DigiKey Link; ComponentLink2URL: http://digikey.com/product-detail/en/on-semiconductor/SZESD7351HT1G/SZESD7351HT1GOSCT-ND/9087835; LastUpdated: 9/2/2020 1:28:27 AM; Lifecycle Status: Active; Minimum Order: 1; Mounting Type: Surface Mount; Operating Temperature: -55°C ~ 150°C (TJ); Package / Case: SC-76, SOD-323; Packaging: TapeAndReel; PartId: 9872; Part Status: Active; Price: 0.09; Series: Automotive, AEC-Q101; Supplier 1: DigiKey; Supplier Part Number 1: SZESD7351HT1GOSCT-ND; Supplier Device Package: SOD-323
footprint SOD323
pins: 1, 2

## SZESD7361XV2T1G
designator D?
TVS DIODE 5V 34V SOD523; Manufacturer: ON Semiconductor; Capacitance @ Frequency: 0.55pF @ 1MHz; Current - Peak Pulse (10/1000µs): 16A (100ns); Power Line Protection: No; Type: Zener; Unidirectional Channels: 1; Voltage - Breakdown (Min): 16.5V; Part Number: SZESD7361XV2T1G; Applications: Automotive; ComponentLink1Description: Datasheet; ComponentLink1URL: http://www.onsemi.com/pub/Collateral/ESD7361-D.PDF; ComponentLink2Description: DigiKey Link; ComponentLink2URL: http://digikey.com/product-detail/en/on-semiconductor/SZESD7361XV2T1G/SZESD7361XV2T1GOSCT-ND/9087836; LastUpdated: 9/2/2020 1:28:24 AM; Lifecycle Status: Active; Minimum Order: 1; Mounting Type: Surface Mount; Operating Temperature: -55°C ~ 125°C (TJ); Package / Case: SC-79, SOD-523; Packaging: TapeAndReel; PartId: 9761; Part Status: Active; Price: 0.09; Series: Automotive, AEC-Q101; Supplier 1: DigiKey; Supplier Part Number 1: SZESD7361XV2T1GOSCT-ND; Supplier Device Package: SOD-523; Voltage - Clamping (Max) @ Ipp: 34V; Voltage - Reverse Standoff (Typ): 5V
footprint SOD523F
pins: 1, 2

## SZESD7371HT1G
designator D?
TVS DIODE 5.3V SOD323; Manufacturer: ON Semiconductor; Capacitance @ Frequency: 0.43pF @ 1MHz; Power Line Protection: No; Type: Zener; Unidirectional Channels: 1; Voltage - Breakdown (Min): 7V; Voltage - Reverse Standoff (Typ): 5.3V (Max); Part Number: SZESD7371HT1G; Applications: Automotive, RF Antenna; ComponentLink1Description: Datasheet; ComponentLink1URL: http://www.onsemi.com/pub/Collateral/ESD7371-D.PDF; ComponentLink2Description: DigiKey Link; ComponentLink2URL: http://digikey.com/product-detail/en/on-semiconductor/SZESD7371HT1G/SZESD7371HT1GOSCT-ND/9087837; LastUpdated: 9/2/2020 1:28:27 AM; Lifecycle Status: Active; Minimum Order: 1; Mounting Type: Surface Mount; Operating Temperature: -55°C ~ 150°C (TJ); Package / Case: SC-76, SOD-323; Packaging: CutTape; PartId: 9888; Part Status: Active; Price: 0.48; Series: Automotive, AEC-Q101; Supplier 1: DigiKey; Supplier Part Number 1: SZESD7371HT1GOSCT-ND; Supplier Device Package: SOD-323
footprint SOD323
pins: 1, 2

## SZESD7371XV2T1G
designator D?
TVS DIODE 5.3V SOD523; Manufacturer: ON Semiconductor; Capacitance @ Frequency: 0.43pF @ 1MHz; Power Line Protection: No; Type: Zener; Unidirectional Channels: 1; Voltage - Breakdown (Min): 7V; Voltage - Reverse Standoff (Typ): 5.3V (Max); Part Number: SZESD7371XV2T1G; Applications: Automotive, RF Antenna; ComponentLink1Description: Datasheet; ComponentLink1URL: http://www.onsemi.com/pub/Collateral/ESD7371-D.PDF; ComponentLink2Description: DigiKey Link; ComponentLink2URL: http://digikey.com/product-detail/en/on-semiconductor/SZESD7371XV2T1G/SZESD7371XV2T1GOSCT-ND/9087838; LastUpdated: 9/2/2020 1:28:24 AM; Lifecycle Status: Active; Minimum Order: 1; Mounting Type: Surface Mount; Operating Temperature: -55°C ~ 150°C (TJ); Package / Case: SC-79, SOD-523; Packaging: TapeAndReel; PartId: 9762; Part Status: Active; Price: 0.09; Series: Automotive, AEC-Q101; Supplier 1: DigiKey; Supplier Part Number 1: SZESD7371XV2T1GOSCT-ND; Supplier Device Package: SOD-523
footprint SOD523F
pins: 1, 2

## SZESD8351HT1G
designator D?
TVS DIODE 3.3VWM 11.2VC SOD323; Manufacturer: ON Semiconductor; Capacitance @ Frequency: 0.37pF @ 1MHz; Current - Peak Pulse (10/1000µs): 5A (8/20µs); Power Line Protection: No; Type: Zener; Unidirectional Channels: 1; Voltage - Breakdown (Min): 5.5V; Voltage - Clamping (Max) @ Ipp: 11.2V; Voltage - Reverse Standoff (Typ): 3.3V (Max); Part Number: SZESD8351HT1G; Applications: Automotive; ComponentLink1Description: Datasheet; ComponentLink1URL: http://www.onsemi.com/pub/Collateral/ESD8351-D.PDF; ComponentLink2Description: DigiKey Link; ComponentLink2URL: http://digikey.com/product-detail/en/on-semiconductor/SZESD8351HT1G/SZESD8351HT1GOSCT-ND/8539004; LastUpdated: 9/2/2020 1:28:27 AM; Lifecycle Status: Active; Minimum Order: 1; Mounting Type: Surface Mount; Operating Temperature: -55°C ~ 125°C (TJ); Package / Case: SC-76, SOD-323; Packaging: TapeAndReel; PartId: 9901; Part Status: Active; Price: 0.09; Series: Automotive, AEC-Q101; Supplier 1: DigiKey; Supplier Part Number 1: SZESD8351HT1GOSCT-ND; Supplier Device Package: SOD-323
footprint SOD323
pins: 1, 2

## SZP6SMB6.8AT3G
designator D?
TVS DIODE 5.8V 10.5V SMB; Manufacturer: Littelfuse Inc.; Capacitance @ Frequency: 2380pF @ 1MHz; Current - Peak Pulse (10/1000µs): 57A; Power Line Protection: No; Power - Peak Pulse: 600W; Type: Zener; Unidirectional Channels: 1; Voltage - Breakdown (Min): 6.45V; Part Number: SZP6SMB6.8AT3G; Applications: Automotive; ComponentLink1Description: Datasheet; ComponentLink1URL: https://www.littelfuse.com/~/media/electronics/datasheets/tvs_diodes/littelfuse_tvs_diode_szp6smb_datasheet.pdf.pdf; ComponentLink2Description: DigiKey Link; ComponentLink2URL: http://digikey.com/product-detail/en/littelfuse-inc/SZP6SMB6.8AT3G/F11639CT-ND/9326959; LastUpdated: 9/2/2020 1:19:47 AM; Lifecycle Status: Active; Minimum Order: 1; Mounting Type: Surface Mount; Operating Temperature: -65°C ~ 150°C (TJ); Package / Case: DO-214AA, SMB; Packaging: TapeAndReel; PartId: 10903; Part Status: Active; Price: 0.24; Series: Automotive, AEC-Q101; Supplier 1: DigiKey; Supplier Part Number 1: F11639CT-ND; Supplier Device Package: SMB; Voltage - Clamping (Max) @ Ipp: 10.5V; Voltage - Reverse Standoff (Typ): 5.8V
footprint DO214AA SMB
pins: 1, 2

## SZP6SMB11CAT3G
designator D?
TVS DIODE 9.4V 15.6V SMB; Manufacturer: Littelfuse Inc.; Bidirectional Channels: 1; Capacitance @ Frequency: 865pF @ 1MHz; Current - Peak Pulse (10/1000µs): 38A; Power Line Protection: No; Power - Peak Pulse: 600W; Type: Zener; Voltage - Breakdown (Min): 10.5V; Part Number: SZP6SMB11CAT3G; Applications: Automotive; ComponentLink1Description: Datasheet; ComponentLink1URL: https://www.littelfuse.com/~/media/electronics/datasheets/tvs_diodes/littelfuse_tvs_diode_szp6smb_datasheet.pdf.pdf; ComponentLink2Description: DigiKey Link; ComponentLink2URL: http://digikey.com/product-detail/en/littelfuse-inc/SZP6SMB11CAT3G/F11604CT-ND/9326924; LastUpdated: 9/2/2020 1:28:19 AM; Lifecycle Status: Active; Minimum Order: 1; Mounting Type: Surface Mount; Operating Temperature: -65°C ~ 150°C (TJ); Package / Case: DO-214AA, SMB; Packaging: TapeAndReel; PartId: 9315; Part Status: Active; Price: 0.37; Series: Automotive, AEC-Q101; Supplier 1: DigiKey; Supplier Part Number 1: F11604CT-ND; Supplier Device Package: SMB; Voltage - Clamping (Max) @ Ipp: 15.6V; Voltage - Reverse Standoff (Typ): 9.4V
footprint DO214AA SMB
pins: 1, 2